# Altium footprint library BAL-UWB-01E3.PcbLib: 1 footprints
Each footprint in its own frame and in the unit in brackets; x right, y up, seen from the top. Pads: shape width x height; smd on the part's side, far side on the other; paste and mask are expansions set on the pad; w line width, h text height; cw(c..) or ccw(c..) is an arc to the next point about the centre after c.
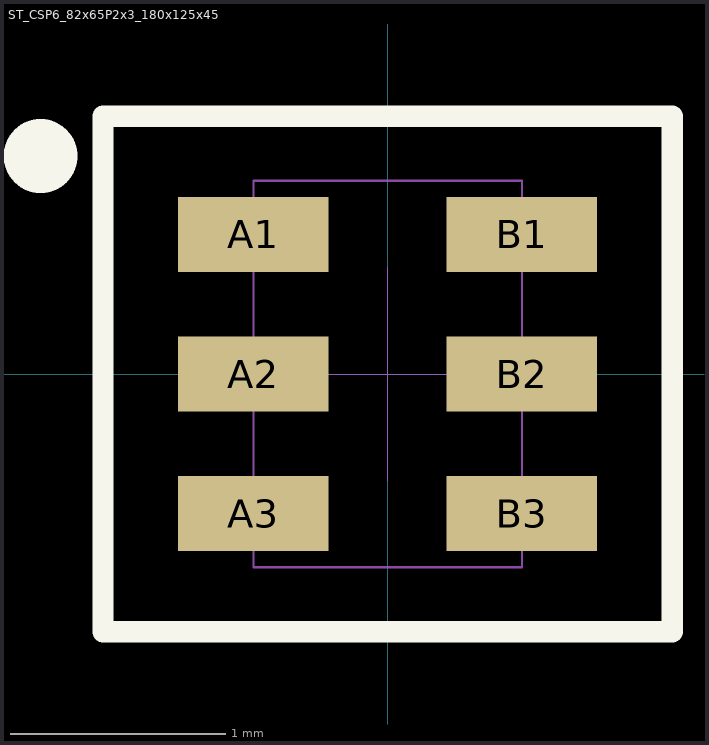
[diagram p0: the footprint, top view; thin cyan lines are the x and y axes]

## ST_CSP6_82x65P2x3_180x125x45 [mm]
pads (6):
  rect 0.7x0.35 smd mask+0.05: A1(-0.625,0.65) A2(-0.625,0) A3(-0.625,-0.65) B1(0.625,0.65) B2(0.625,0) B3(0.625,-0.65)
Top Overlay:
  circle w0.3: c-1.616,1.015 r0.022
  lines w0.1: -1.325,-1.2 1.325,-1.2 1.325,1.2 -1.325,1.2 -1.325,-1.2
Mechanical 15:
  lines w0.001: -0.5,0 0.5,0 ; 0,-0.5 0,0.5
  lines w0.01: -0.625,-0.9 0.625,-0.9 0.625,0.9 -0.625,0.9 -0.625,-0.9
3D body: height 0.45, standoff 0, extent -0.625,-0.9 0.625,0.9